# EAGLE library part MINI_SD (library ELCano_Footprints)
SD Breakoutboard footprint for ELCano Project https://learn.adafruit.com/adafruit-micro-sd-breakout-board-card-tutorial/introduction
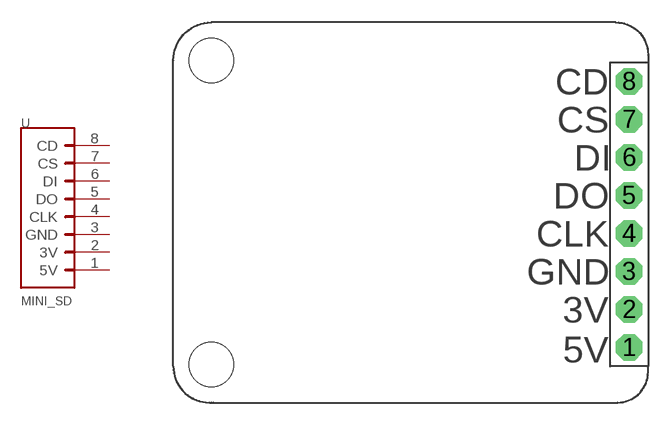
[diagram p4: symbol with the pads of ELSDCARD; footprint ELSDCARD]

Designator prefix -

## MINI_SD  [ELSDCARD]
1  5V
2  3V
3  GND
4  CLK
5  DO
6  DI
7  CS
8  CD

## Footprint ELSDCARD (pad centres in mm)
drill 1.016 pad 1.778 octagon: 1 1.27,1.27; 2 1.27,3.81; 3 1.27,6.35; 4 1.27,8.89; 5 1.27,11.43; 6 1.27,13.97; 7 1.27,16.51; 8 1.27,19.05
hole 3 at -26.67,0.127
hole 3 at -26.67,20.447